# EAGLE library part ICM-42688-V (library ICM-42688-V)
High Precision 6-Axis MEMS MotionTracking? Device with Advanced Sensor Fusion Library Source: Datasheet <https://3cfeqx1hf82y3xcoull08ihx-wpengine.netdna-ssl.com/wp-content/uploads/2021/04/DS-000439-ICM-42688-V-v1.1.pdf>
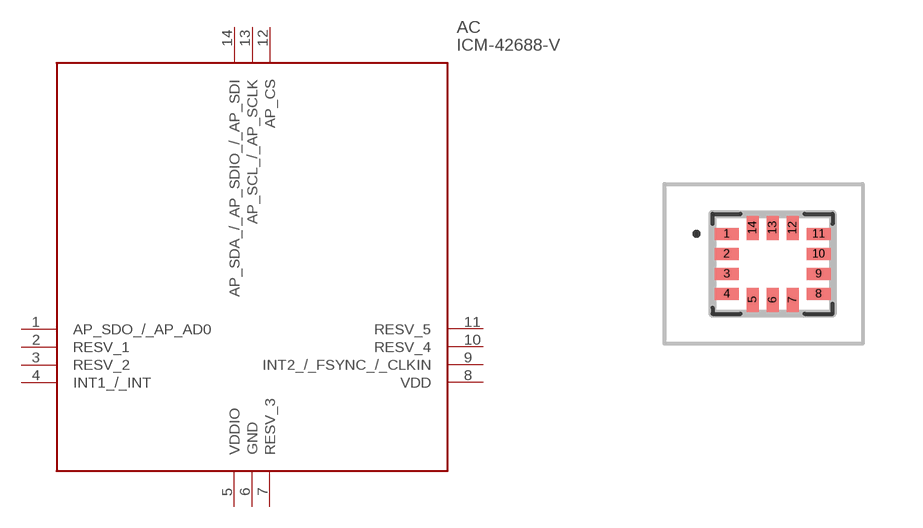
[diagram p0: symbol with the pads of IIM42352; footprint IIM42352]

Designator prefix AC

## ICM-42688-V (Description: High Precision 6-Axis MEMS MotionTracking? Device with Advanced Sensor Fusion Library; Height: mm; Manufacturer_Name: TDK; Manufacturer_Part_Number: ICM-42688-V; Mouser_Part_Number: 410-ICM-42688-V; Mouser_Price-Stock: https://www.mouser.co.uk/ProductDetail/TDK-InvenSense/ICM-42688-V?qs=iLbezkQI%252Bsj8X%2F1CCh43jQ%3D%3D)  [IIM42352]
1  AP_SDO_/_AP_AD0
2  RESV_1
3  RESV_2
4  INT1_/_INT
5  VDDIO
6  GND
7  RESV_3
8  VDD
9  INT2_/_FSYNC_/_CLKIN
10  RESV_4
11  RESV_5
12  AP_CS
13  AP_SCL_/_AP_SCLK
14  AP_SDA_/_AP_SDIO_/_AP_SDI

## Footprint IIM42352 (pad centres in mm)
14 Lead LGA (2.5x3x0.91)_1
smd 0.6 x 0.3: 1 -1.15,0.75; 2 -1.15,0.25; 3 -1.15,-0.25; 4 -1.15,-0.75; 8 1.15,-0.75; 9 1.15,-0.25; 10 1.15,0.25; 11 1.15,0.75
smd 0.3 x 0.6: 5 -0.5,-0.9; 6 0,-0.9; 7 0.5,-0.9; 12 0.5,0.9; 13 0,0.9; 14 -0.5,0.9